# EAGLE library part CONNECTOR-IO4 (library SPCoast)
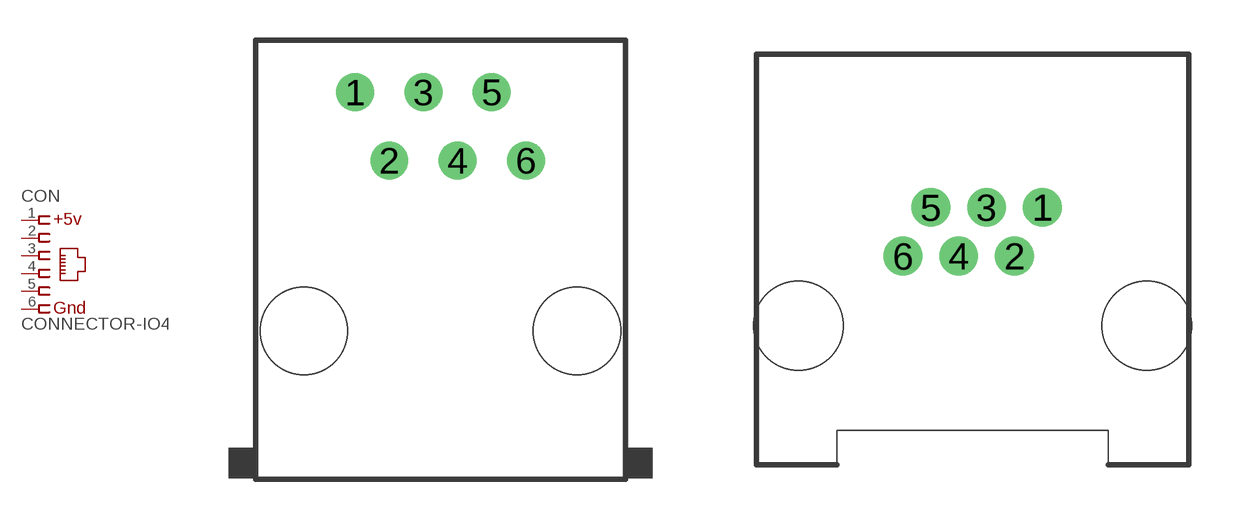
[diagram p5: symbol with the pads of IO4-RJ12; footprints IO4-RJ12, RJ25-INVERTED]

Designator prefix CON

## CONNECTOR-IO4STD  [IO4-RJ12]
1  1  pwr
2  2  pas
3  3  pas
4  4  pas
5  5  pas
6  6  pwr

## CONNECTOR-IO4INV  [RJ25-INVERTED]
Pads as for IO4-RJ12

## CONNECTOR-IO4PNL  [RJ25-PANEL]
Pads as for IO4-RJ12

## CONNECTOR-IO4TOP  [RJ25-TOP]
Pads as for IO4-RJ12

## CONNECTOR-IO4PINS  [RJ25-PINS]
1  1  pwr
1@1  1  pwr
2  2  pas
2@1  2  pas
3  3  pas
3@1  3  pas
4  4  pas
4@1  4  pas
5  5  pas
5@1  5  pas
6  6  pwr
6@1  6  pwr

## CONNECTOR-IO4IPINS  [RJ24-INVERTED-PINS]
Pads as for RJ25-PINS

## CONNECTOR-IO4SIP  [IO4-SIP-PINS]
Pads as for IO4-RJ12

## Footprint IO4-RJ12 (pad centres in mm)
drill 0.9 pad 1.4: 1 -3.175,8.89; 2 -1.905,6.35; 3 -0.635,8.89; 4 0.635,6.35; 5 1.905,8.89; 6 3.175,6.35
hole 3.251 at -5.08,0
hole 3.251 at 5.08,0

## Footprint RJ25-INVERTED (pad centres in mm)
drill 0.9 pad 1.4: 1 2.54,4.318; 2 1.524,2.54; 3 0.508,4.318; 4 -0.508,2.54; 5 -1.524,4.318; 6 -2.54,2.54
hole 3.251 at -6.35,0
hole 3.251 at 6.35,0

## Footprint RJ25-PANEL (pad centres in mm)
Modular Jackwith Panel Stops
drill 0.889: 1 -3.175,8.89; 2 -1.905,6.35; 3 -0.635,8.89; 4 0.635,6.35; 5 1.905,8.89; 6 3.175,6.35
hole 3.251 at -5.08,0
hole 3.251 at 5.08,0

## Footprint RJ25-TOP (pad centres in mm)
drill 0.9 pad 1.4: 1 -3.175,8.89; 2 -1.905,6.35; 3 -0.635,8.89; 4 0.635,6.35; 5 1.905,8.89; 6 3.175,6.35
hole 3.251 at -5.08,0
hole 3.251 at 5.08,0

## Footprint RJ25-PINS (pad centres in mm)
drill 1.016 pad 1.88: 1 6.35,-8.255; 2 3.81,-8.001; 3 1.27,-8.255; 4 -1.27,-8.001; 5 -3.81,-8.255; 6 -6.35,-8.001
drill 0.889: 1@1 3.175,-4.445; 2@1 1.905,-1.905; 3@1 0.635,-4.445; 4@1 -0.635,-1.905; 5@1 -1.905,-4.445; 6@1 -3.175,-1.905
hole 3.251 at 5.08,4.445
hole 3.251 at -5.08,4.445

## Footprint RJ24-INVERTED-PINS (pad centres in mm)
drill 1.016 pad 1.88: 1 6.35,-4.064; 2 3.81,-3.81; 3 1.27,-4.064; 4 -1.27,-3.81; 5 -3.81,-4.064; 6 -6.35,-3.81
drill 0.9 pad 1.4: 1@1 -2.54,-0.508; 2@1 -1.524,1.27; 3@1 -0.508,-0.508; 4@1 0.508,1.27; 5@1 1.524,-0.508; 6@1 2.54,1.27
hole 3.251 at 6.35,3.81
hole 3.251 at -6.35,3.81

## Footprint IO4-SIP-PINS (pad centres in mm)
drill 1.016 pad 1.88: 1 12.7,-0.254; 2 10.16,0; 3 7.62,-0.254; 4 5.08,0; 5 2.54,-0.254; 6 0,0